# Altium schematic symbol library SCH - CONNECTORS - WE 615006138421.Schlib: 1 symbol
Pins are listed as number, name and electrical type; pins without a type are passive.

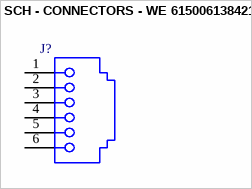
[diagram p0: symbol SCH - CONNECTORS - WE 615006138421]

## SCH - CONNECTORS - WE 615006138421
designator J?
footprint 615006138421
pins: 1, 2, 3, 4, 5, 6